# EAGLE library part USB2SERIAL (library lieven)
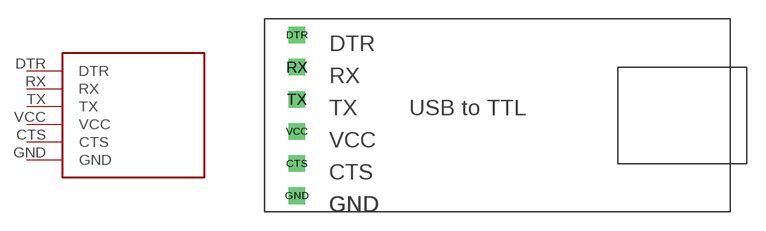
[diagram p17: symbol with the pads of USB2SERIAL; footprint USB2SERIAL]

Designator prefix -

## USB2SERIAL  [USB2SERIAL]
CTS  CTS
DTR  DTR
GND  GND
RX  RX
TX  TX
VCC  VCC

## Footprint USB2SERIAL (pad centres in mm)
drill 0.8 square: CTS 2.54,3.81; DTR 2.54,13.97; GND 2.54,1.27; RX 2.54,11.43; TX 2.54,8.89; VCC 2.54,6.35